# Altium schematic symbol library MCU.SchLib: 7 symbols
Pins are listed as number, name and electrical type; pins without a type are passive.

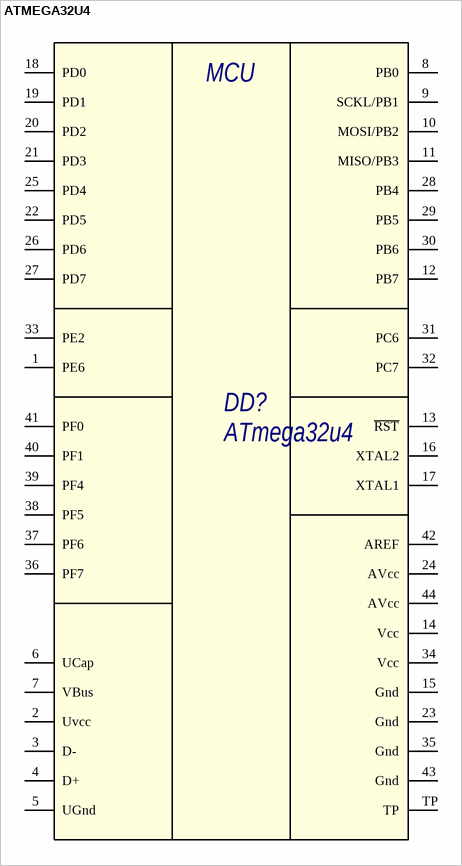
[diagram p0: symbol ATMEGA32U4]

## ATMEGA32U4
designator DD?, comment ATmega32u4
Микроконтроллер AVR 8-bit; Name: ATmega32u4; HelpURL: https://files.amperka.ru/datasheets/ATMega32u4.pdf
footprint TQFP44
footprint QFN44
footprint UNIVERSAL_ATMEGA32U4
pins: 1 PE6, 2 Uvcc, 3 D-, 4 D+, 5 UGnd, 6 UCap, 7 VBus, 8 PB0, 9 SCKL/PB1, 10 MOSI/PB2, 11 MISO/PB3, 12 PB7, 13 ~{RST}, 14 Vcc, 15 Gnd, 16 XTAL2, 17 XTAL1, 18 PD0, 19 PD1, 20 PD2, 21 PD3, 22 PD5, 23 Gnd, 24 AVcc, 25 PD4, 26 PD6, 27 PD7, 28 PB4, 29 PB5, 30 PB6, 31 PC6, 32 PC7, 33 PE2, 34 Vcc, 35 Gnd, 36 PF7, 37 PF6, 38 PF5, 39 PF4, 40 PF1, 41 PF0, 42 AREF, 43 Gnd, 44 AVcc, TP
text: MCU

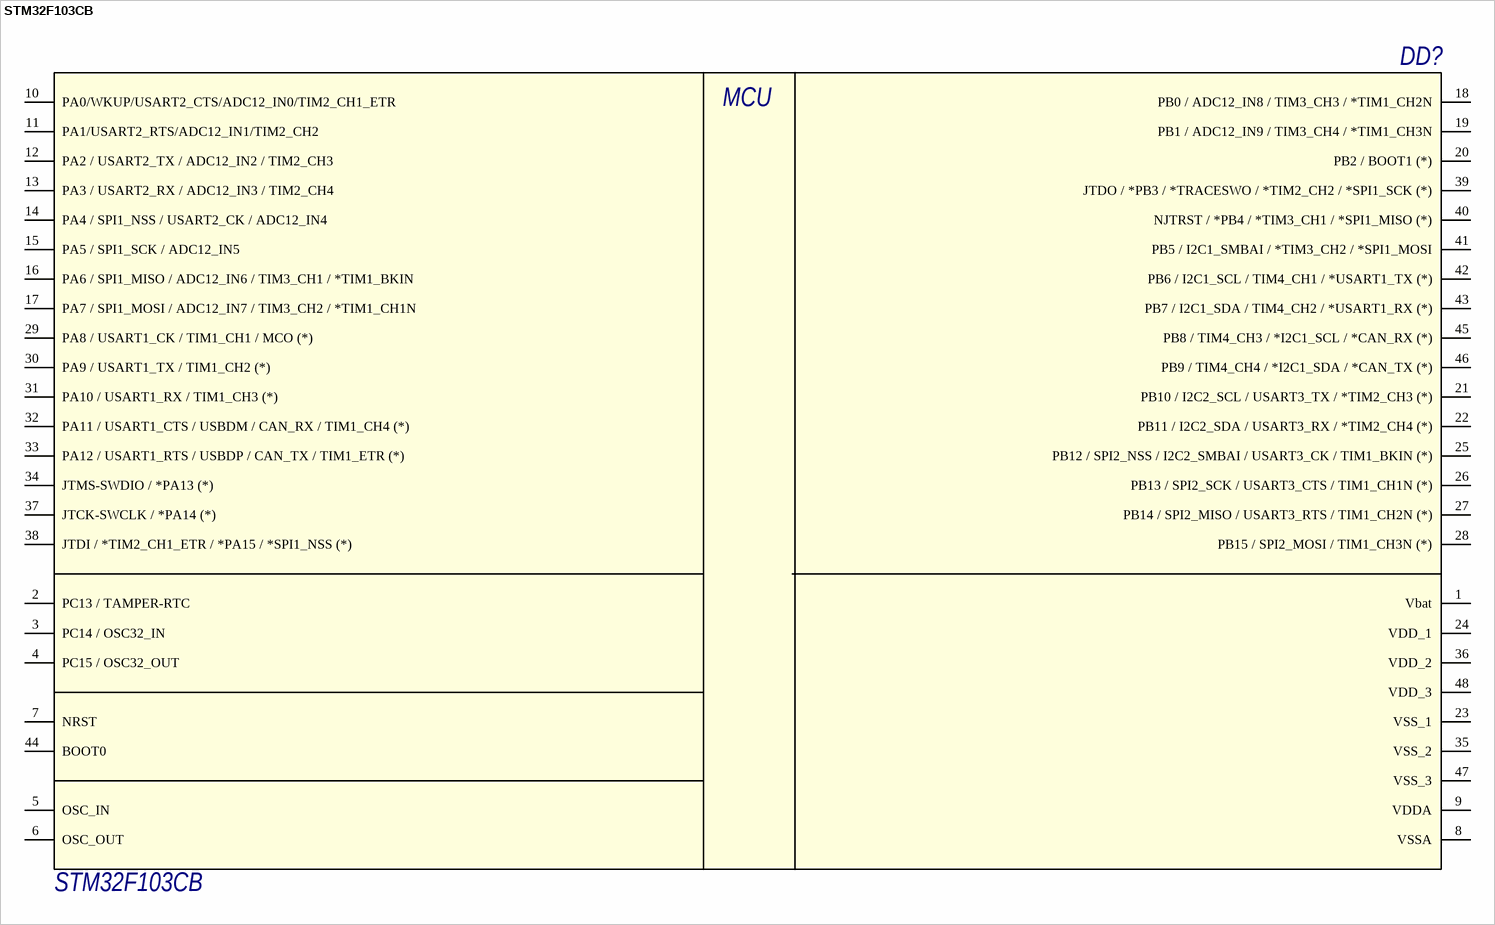
[diagram p1: symbol STM32F103CB]

## STM32F103CB
designator DD?
Микроконтроллер; Name: STM32F103CB
footprint LQFP48 (Thin QFP, 48-Leads, Body 7x7mm, Pitch 0.5mm, IPC High Density)
pins: 1 Vbat, 2 PC13 / TAMPER-RTC, 3 PC14 / OSC32_IN, 4 PC15 / OSC32_OUT, 5 OSC_IN, 6 OSC_OUT, 7 NRST, 8 VSSA, 9 VDDA, 10 PA0/WKUP/USART2_CTS/ADC12_IN0/TIM2_CH1_ETR, 11 PA1/USART2_RTS/ADC12_IN1/TIM2_CH2, 12 PA2 / USART2_TX / ADC12_IN2 / TIM2_CH3, 13 PA3 / USART2_RX / ADC12_IN3 / TIM2_CH4, 14 PA4 / SPI1_NSS / USART2_CK / ADC12_IN4, 15 PA5 / SPI1_SCK / ADC12_IN5, 16 PA6 / SPI1_MISO / ADC12_IN6 / TIM3_CH1 / *TIM1_BKIN, 17 PA7 / SPI1_MOSI / ADC12_IN7 / TIM3_CH2 / *TIM1_CH1N, 18 PB0 / ADC12_IN8 / TIM3_CH3 / *TIM1_CH2N, 19 PB1 / ADC12_IN9 / TIM3_CH4 / *TIM1_CH3N, 20 PB2 / BOOT1 (*), 21 PB10 / I2C2_SCL / USART3_TX / *TIM2_CH3 (*), 22 PB11 / I2C2_SDA / USART3_RX / *TIM2_CH4 (*), 23 VSS_1, 24 VDD_1, 25 PB12 / SPI2_NSS / I2C2_SMBAI / USART3_CK / TIM1_BKIN (*), 26 PB13 / SPI2_SCK / USART3_CTS / TIM1_CH1N (*), 27 PB14 / SPI2_MISO / USART3_RTS / TIM1_CH2N (*), 28 PB15 / SPI2_MOSI / TIM1_CH3N (*), 29 PA8 / USART1_CK / TIM1_CH1 / MCO (*), 30 PA9 / USART1_TX / TIM1_CH2 (*), 31 PA10 / USART1_RX / TIM1_CH3 (*), 32 PA11 / USART1_CTS / USBDM / CAN_RX / TIM1_CH4 (*), 33 PA12 / USART1_RTS / USBDP / CAN_TX / TIM1_ETR (*), 34 JTMS-SWDIO / *PA13 (*), 35 VSS_2, 36 VDD_2, 37 JTCK-SWCLK / *PA14 (*), 38 JTDI / *TIM2_CH1_ETR / *PA15 / *SPI1_NSS (*), 39 JTDO / *PB3 / *TRACESWO / *TIM2_CH2 / *SPI1_SCK (*), 40 NJTRST / *PB4 / *TIM3_CH1 / *SPI1_MISO (*), 41 PB5 / I2C1_SMBAI / *TIM3_CH2 / *SPI1_MOSI, 42 PB6 / I2C1_SCL / TIM4_CH1 / *USART1_TX (*), 43 PB7 / I2C1_SDA / TIM4_CH2 / *USART1_RX (*), 44 BOOT0, 45 PB8 / TIM4_CH3 / *I2C1_SCL / *CAN_RX (*), 46 PB9 / TIM4_CH4 / *I2C1_SDA / *CAN_TX (*), 47 VSS_3, 48 VDD_3
text: MCU

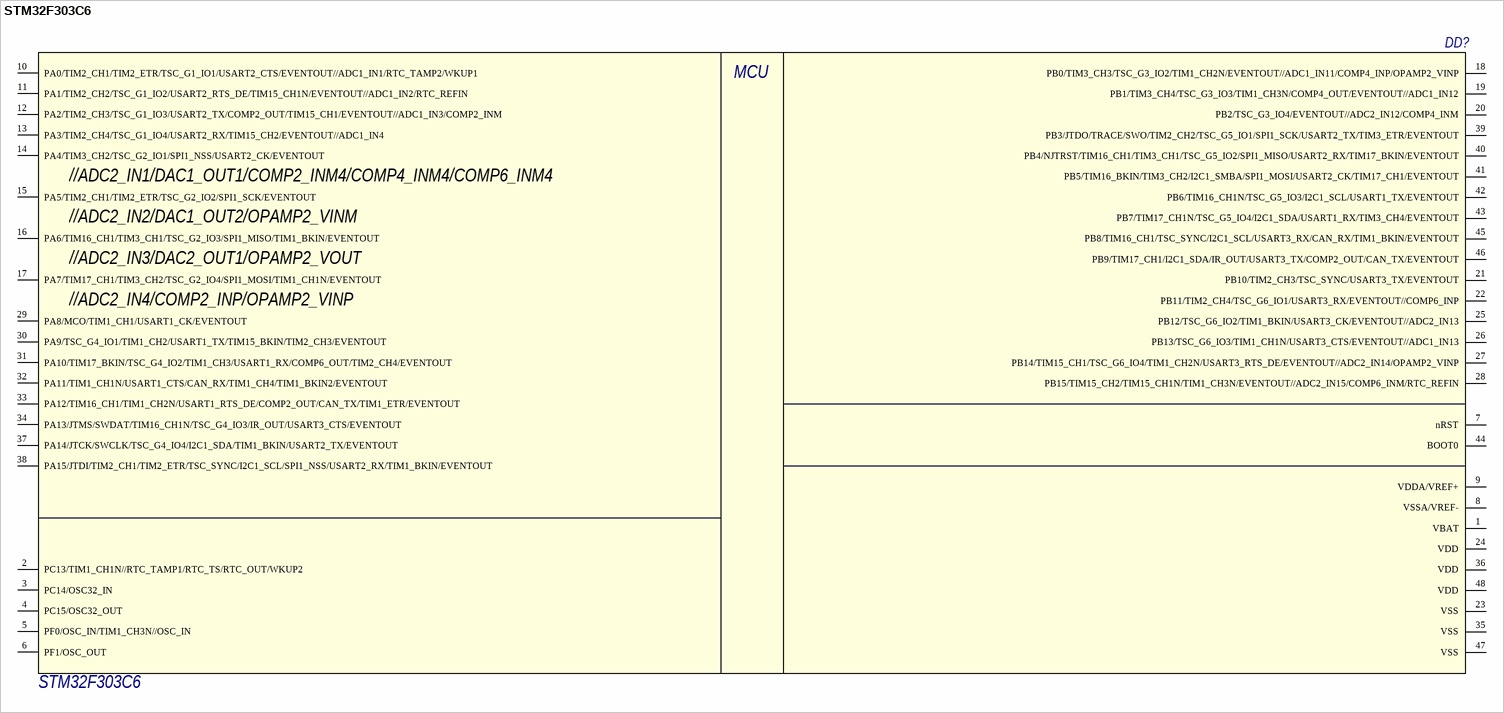
[diagram p2: symbol STM32F303C6]

## STM32F303C6
designator DD?
Микроконтроллер; Name: STM32F303C6
footprint LQFP48 (Thin QFP, 48-Leads, Body 7x7mm, Pitch 0.5mm, IPC High Density)
pins: 1 VBAT, 2 PC13/TIM1_CH1N//RTC_TAMP1/RTC_TS/RTC_OUT/WKUP2, 3 PC14/OSC32_IN, 4 PC15/OSC32_OUT, 5 PF0/OSC_IN/TIM1_CH3N//OSC_IN, 6 PF1/OSC_OUT, 7 nRST, 8 VSSA/VREF-, 9 VDDA/VREF+, 10 PA0/TIM2_CH1/TIM2_ETR/TSC_G1_IO1/USART2_CTS/EVENTOUT//ADC1_IN1/RTC_TAMP2/WKUP1, 11 PA1/TIM2_CH2/TSC_G1_IO2/USART2_RTS_DE/TIM15_CH1N/EVENTOUT//ADC1_IN2/RTC_REFIN, 12 PA2/TIM2_CH3/TSC_G1_IO3/USART2_TX/COMP2_OUT/TIM15_CH1/EVENTOUT//ADC1_IN3/COMP2_INM, 13 PA3/TIM2_CH4/TSC_G1_IO4/USART2_RX/TIM15_CH2/EVENTOUT//ADC1_IN4, 14 PA4/TIM3_CH2/TSC_G2_IO1/SPI1_NSS/USART2_CK/EVENTOUT, 15 PA5/TIM2_CH1/TIM2_ETR/TSC_G2_IO2/SPI1_SCK/EVENTOUT, 16 PA6/TIM16_CH1/TIM3_CH1/TSC_G2_IO3/SPI1_MISO/TIM1_BKIN/EVENTOUT, 17 PA7/TIM17_CH1/TIM3_CH2/TSC_G2_IO4/SPI1_MOSI/TIM1_CH1N/EVENTOUT, 18 PB0/TIM3_CH3/TSC_G3_IO2/TIM1_CH2N/EVENTOUT//ADC1_IN11/COMP4_INP/OPAMP2_VINP, 19 PB1/TIM3_CH4/TSC_G3_IO3/TIM1_CH3N/COMP4_OUT/EVENTOUT//ADC1_IN12, 20 PB2/TSC_G3_IO4/EVENTOUT//ADC2_IN12/COMP4_INM, 21 PB10/TIM2_CH3/TSC_SYNC/USART3_TX/EVENTOUT, 22 PB11/TIM2_CH4/TSC_G6_IO1/USART3_RX/EVENTOUT//COMP6_INP, 23 VSS, 24 VDD, 25 PB12/TSC_G6_IO2/TIM1_BKIN/USART3_CK/EVENTOUT//ADC2_IN13, 26 PB13/TSC_G6_IO3/TIM1_CH1N/USART3_CTS/EVENTOUT//ADC1_IN13, 27 PB14/TIM15_CH1/TSC_G6_IO4/TIM1_CH2N/USART3_RTS_DE/EVENTOUT//ADC2_IN14/OPAMP2_VINP, 28 PB15/TIM15_CH2/TIM15_CH1N/TIM1_CH3N/EVENTOUT//ADC2_IN15/COMP6_INM/RTC_REFIN, 29 PA8/MCO/TIM1_CH1/USART1_CK/EVENTOUT, 30 PA9/TSC_G4_IO1/TIM1_CH2/USART1_TX/TIM15_BKIN/TIM2_CH3/EVENTOUT, 31 PA10/TIM17_BKIN/TSC_G4_IO2/TIM1_CH3/USART1_RX/COMP6_OUT/TIM2_CH4/EVENTOUT, 32 PA11/TIM1_CH1N/USART1_CTS/CAN_RX/TIM1_CH4/TIM1_BKIN2/EVENTOUT, 33 PA12/TIM16_CH1/TIM1_CH2N/USART1_RTS_DE/COMP2_OUT/CAN_TX/TIM1_ETR/EVENTOUT, 34 PA13/JTMS/SWDAT/TIM16_CH1N/TSC_G4_IO3/IR_OUT/USART3_CTS/EVENTOUT, 35 VSS, 36 VDD, 37 PA14/JTCK/SWCLK/TSC_G4_IO4/I2C1_SDA/TIM1_BKIN/USART2_TX/EVENTOUT, 38 PA15/JTDI/TIM2_CH1/TIM2_ETR/TSC_SYNC/I2C1_SCL/SPI1_NSS/USART2_RX/TIM1_BKIN/EVENTOUT, 39 PB3/JTDO/TRACE/SWO/TIM2_CH2/TSC_G5_IO1/SPI1_SCK/USART2_TX/TIM3_ETR/EVENTOUT, 40 PB4/NJTRST/TIM16_CH1/TIM3_CH1/TSC_G5_IO2/SPI1_MISO/USART2_RX/TIM17_BKIN/EVENTOUT, 41 PB5/TIM16_BKIN/TIM3_CH2/I2C1_SMBA/SPI1_MOSI/USART2_CK/TIM17_CH1/EVENTOUT, 42 PB6/TIM16_CH1N/TSC_G5_IO3/I2C1_SCL/USART1_TX/EVENTOUT, 43 PB7/TIM17_CH1N/TSC_G5_IO4/I2C1_SDA/USART1_RX/TIM3_CH4/EVENTOUT, 44 BOOT0, 45 PB8/TIM16_CH1/TSC_SYNC/I2C1_SCL/USART3_RX/CAN_RX/TIM1_BKIN/EVENTOUT, 46 PB9/TIM17_CH1/I2C1_SDA/IR_OUT/USART3_TX/COMP2_OUT/CAN_TX/EVENTOUT, 47 VSS, 48 VDD
text: MCU; //ADC2_IN1/DAC1_OUT1/COMP2_INM4/COMP4_INM4/COMP6_INM4; //ADC2_IN2/DAC1_OUT2/OPAMP2_VINM; //ADC2_IN3/DAC2_OUT1/OPAMP2_VOUT; //ADC2_IN4/COMP2_INP/OPAMP2_VINP

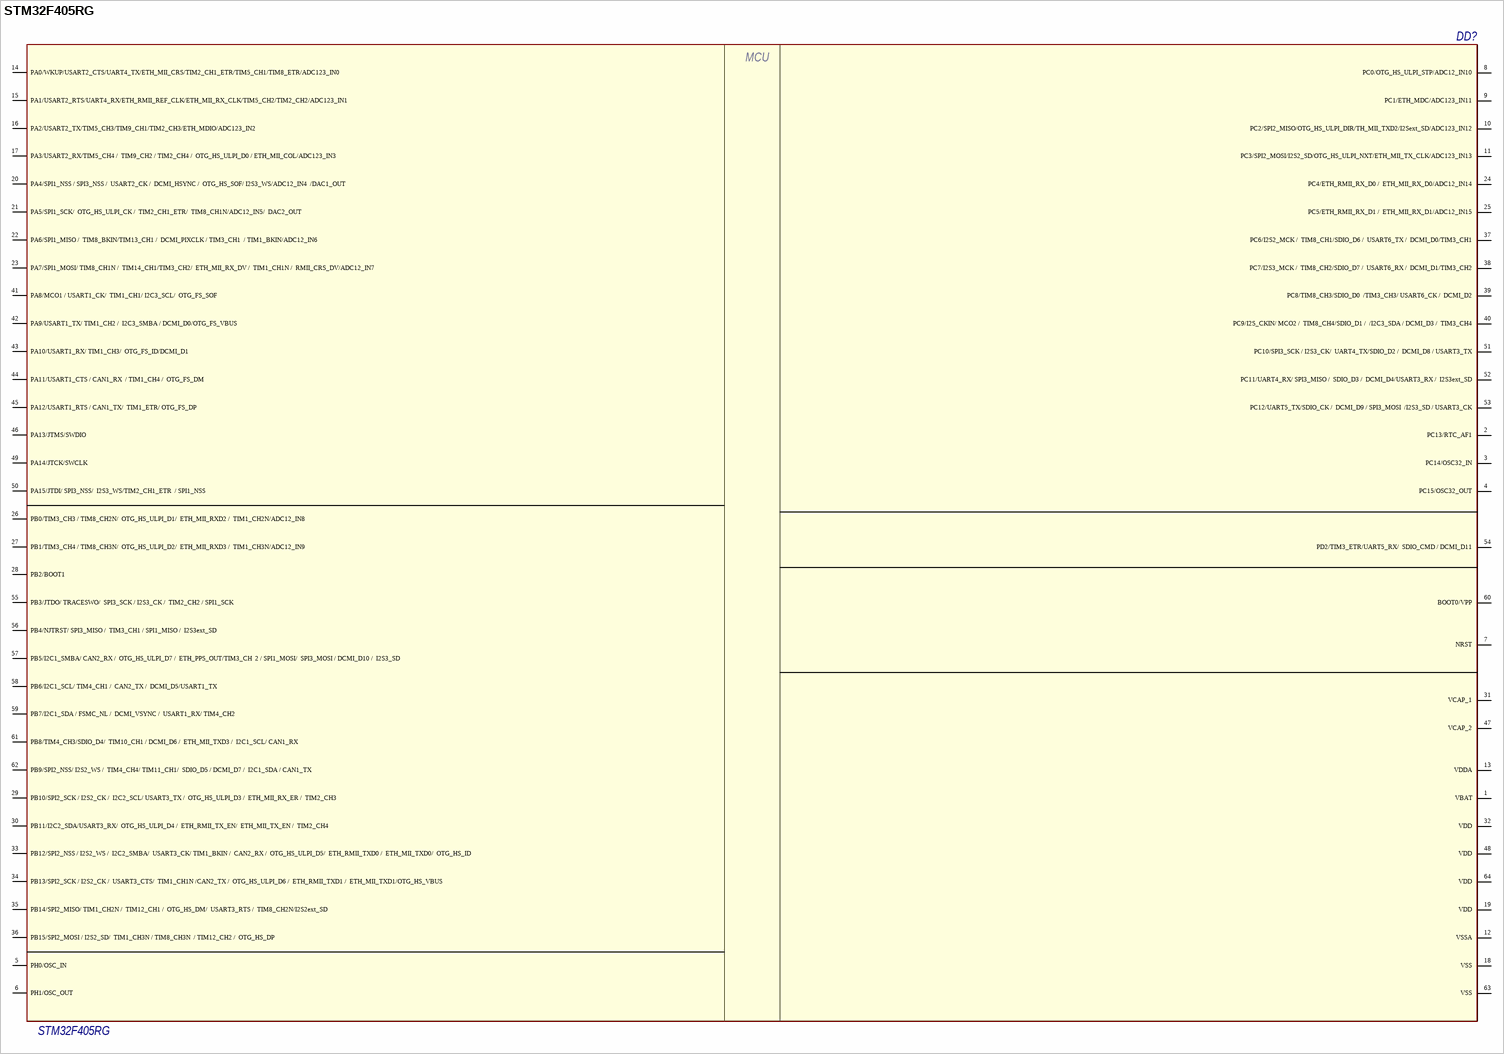
[diagram p3: symbol STM32F405RG]

## STM32F405RG
designator DD?
Микроконтроллер Cortex-M4; Name: STM32F405RG
footprint LQFP64_L (TSQFP, 64-Leads, Body 10,00x10,00mm, Pitch 0,50mm, IPC Medium Density)
footprint LQFP64_H (64-Pin Low Profile Quad Pack 0.5 mm Pitch, IPC High Density)
pins: 1 VBAT, 2 PC13/RTC_AF1, 3 PC14/OSC32_IN, 4 PC15/OSC32_OUT, 5 PH0/OSC_IN, 6 PH1/OSC_OUT, 7 NRST, 8 PC0/OTG_HS_ULPI_STP/ADC12_IN10, 9 PC1/ETH_MDC/ADC123_IN11, 10 PC2/SPI2_MISO/OTG_HS_ULPI_DIR/TH_MII_TXD2/I2Sext_SD/ADC123_IN12, 11 PC3/SPI2_MOSI/I2S2_SD/OTG_HS_ULPI_NXT/ETH_MII_TX_CLK/ADC123_IN13, 12 VSSA, 13 VDDA, 14 PA0/WKUP/USART2_CTS/UART4_TX/ETH_MII_CRS/TIM2_CH1_ETR/TIM5_CH1/TIM8_ETR/ADC123_IN0, 15 PA1/USART2_RTS/UART4_RX/ETH_RMII_REF_CLK/ETH_MII_RX_CLK/TIM5_CH2/TIM2_CH2/ADC123_IN1, 16 PA2/USART2_TX/TIM5_CH3/TIM9_CH1/TIM2_CH3/ETH_MDIO/ADC123_IN2, 17 PA3/USART2_RX/TIM5_CH4 /  TIM9_CH2 / TIM2_CH4 /  OTG_HS_ULPI_D0 / ETH_MII_COL/ADC123_IN3, 18 VSS, 19 VDD, 20 PA4/SPI1_NSS / SPI3_NSS /  USART2_CK /  DCMI_HSYNC /  OTG_HS_SOF/ I2S3_WS/ADC12_IN4  /DAC1_OUT, 21 PA5/SPI1_SCK/  OTG_HS_ULPI_CK /  TIM2_CH1_ETR/  TIM8_CH1N/ADC12_IN5/  DAC2_OUT, 22 PA6/SPI1_MISO /  TIM8_BKIN/TIM13_CH1 /  DCMI_PIXCLK / TIM3_CH1  / TIM1_BKIN/ADC12_IN6, 23 PA7/SPI1_MOSI/ TIM8_CH1N /  TIM14_CH1/TIM3_CH2/  ETH_MII_RX_DV /  TIM1_CH1N /  RMII_CRS_DV/ADC12_IN7, 24 PC4/ETH_RMII_RX_D0 /  ETH_MII_RX_D0/ADC12_IN14, 25 PC5/ETH_RMII_RX_D1 /  ETH_MII_RX_D1/ADC12_IN15, 26 PB0/TIM3_CH3 / TIM8_CH2N/  OTG_HS_ULPI_D1/  ETH_MII_RXD2 /  TIM1_CH2N/ADC12_IN8, 27 PB1/TIM3_CH4 / TIM8_CH3N/  OTG_HS_ULPI_D2/  ETH_MII_RXD3 /  TIM1_CH3N/ADC12_IN9, 28 PB2/BOOT1, 29 PB10/SPI2_SCK / I2S2_CK /  I2C2_SCL/ USART3_TX /  OTG_HS_ULPI_D3 /  ETH_MII_RX_ER /  TIM2_CH3, 30 PB11/I2C2_SDA/USART3_RX/  OTG_HS_ULPI_D4 /  ETH_RMII_TX_EN/  ETH_MII_TX_EN /  TIM2_CH4, 31 VCAP_1, 32 VDD, 33 PB12/SPI2_NSS / I2S2_WS /  I2C2_SMBA/  USART3_CK/ TIM1_BKIN /  CAN2_RX /  OTG_HS_ULPI_D5/  ETH_RMII_TXD0 /  ETH_MII_TXD0/  OTG_HS_ID, 34 PB13/SPI2_SCK / I2S2_CK /  USART3_CTS/  TIM1_CH1N /CAN2_TX /  OTG_HS_ULPI_D6 /  ETH_RMII_TXD1 /  ETH_MII_TXD1/OTG_HS_VBUS, 35 PB14/SPI2_MISO/ TIM1_CH2N /  TIM12_CH1 /  OTG_HS_DM/  USART3_RTS /  TIM8_CH2N/I2S2ext_SD, 36 PB15/SPI2_MOSI / I2S2_SD/  TIM1_CH3N / TIM8_CH3N  / TIM12_CH2 /  OTG_HS_DP, 37 PC6/I2S2_MCK /  TIM8_CH1/SDIO_D6 /  USART6_TX /  DCMI_D0/TIM3_CH1, 38 PC7/I2S3_MCK /  TIM8_CH2/SDIO_D7 /  USART6_RX /  DCMI_D1/TIM3_CH2, 39 PC8/TIM8_CH3/SDIO_D0  /TIM3_CH3/ USART6_CK /  DCMI_D2, 40 PC9/I2S_CKIN/ MCO2 /  TIM8_CH4/SDIO_D1 /  /I2C3_SDA / DCMI_D3 /  TIM3_CH4, 41 PA8/MCO1 / USART1_CK/  TIM1_CH1/ I2C3_SCL/  OTG_FS_SOF, 42 PA9/USART1_TX/ TIM1_CH2 /  I2C3_SMBA / DCMI_D0/OTG_FS_VBUS, 43 PA10/USART1_RX/ TIM1_CH3/  OTG_FS_ID/DCMI_D1, 44 PA11/USART1_CTS / CAN1_RX  / TIM1_CH4 /  OTG_FS_DM, 45 PA12/USART1_RTS / CAN1_TX/  TIM1_ETR/ OTG_FS_DP, 46 PA13/JTMS/SWDIO, 47 VCAP_2, 48 VDD, 49 PA14/JTCK/SWCLK, 50 PA15/JTDI/ SPI3_NSS/  I2S3_WS/TIM2_CH1_ETR  / SPI1_NSS, 51 PC10/SPI3_SCK / I2S3_CK/  UART4_TX/SDIO_D2 /  DCMI_D8 / USART3_TX, 52 PC11/UART4_RX/ SPI3_MISO /  SDIO_D3 /  DCMI_D4/USART3_RX /  I2S3ext_SD, 53 PC12/UART5_TX/SDIO_CK /  DCMI_D9 / SPI3_MOSI  /I2S3_SD / USART3_CK, 54 PD2/TIM3_ETR/UART5_RX/  SDIO_CMD / DCMI_D11, 55 PB3/JTDO/ TRACESWO/  SPI3_SCK / I2S3_CK /  TIM2_CH2 / SPI1_SCK, 56 PB4/NJTRST/ SPI3_MISO /  TIM3_CH1 / SPI1_MISO /  I2S3ext_SD, 57 PB5/I2C1_SMBA/ CAN2_RX /  OTG_HS_ULPI_D7 /  ETH_PPS_OUT/TIM3_CH  2 / SPI1_MOSI/  SPI3_MOSI / DCMI_D10 /  I2S3_SD, 58 PB6/I2C1_SCL/ TIM4_CH1 /  CAN2_TX /  DCMI_D5/USART1_TX, 59 PB7/I2C1_SDA / FSMC_NL /  DCMI_VSYNC /  USART1_RX/ TIM4_CH2, 60 BOOT0/VPP, 61 PB8/TIM4_CH3/SDIO_D4/  TIM10_CH1 / DCMI_D6 /  ETH_MII_TXD3 /  I2C1_SCL/ CAN1_RX, 62 PB9/SPI2_NSS/ I2S2_WS /  TIM4_CH4/ TIM11_CH1/  SDIO_D5 / DCMI_D7 /  I2C1_SDA / CAN1_TX, 63 VSS, 64 VDD
text: MCU

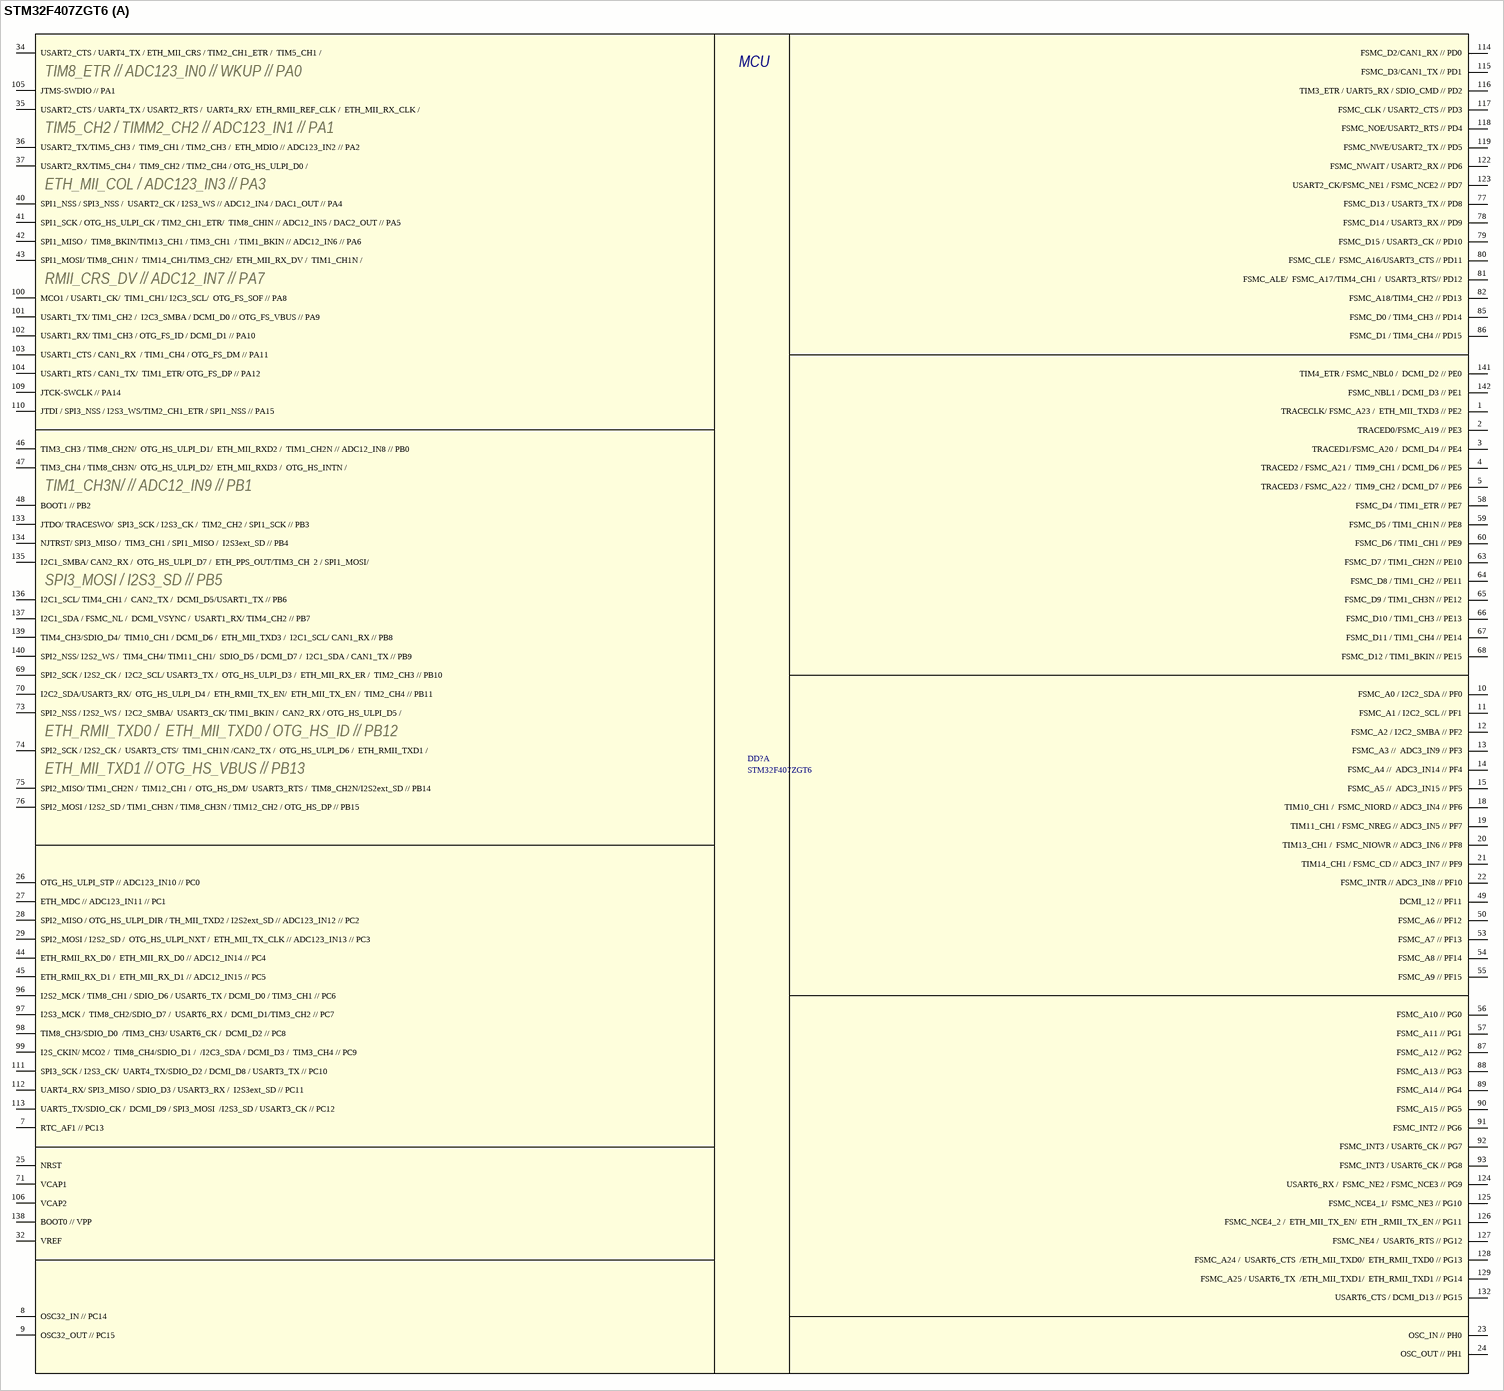
[diagram p4: symbol STM32F407ZGT6]

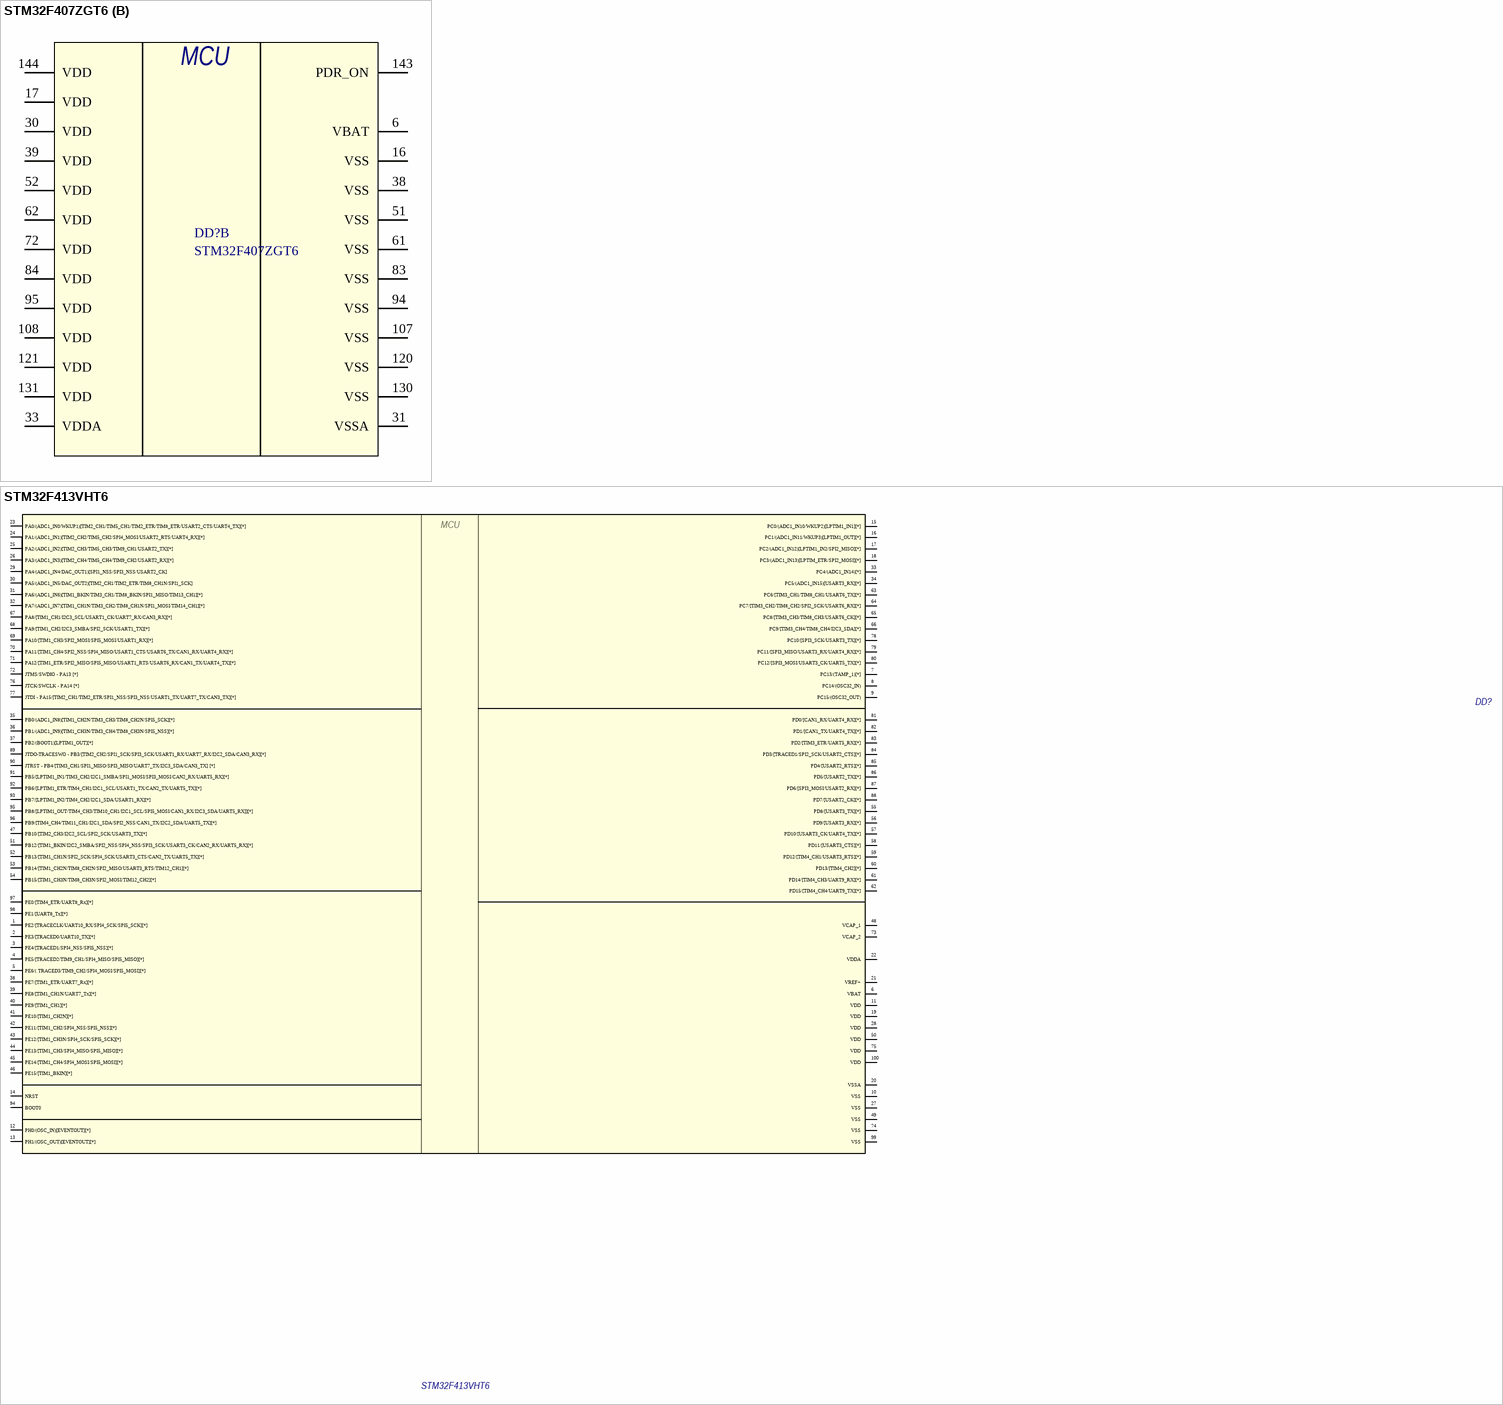
[diagram p5: symbols STM32F407ZGT6 to STM32F413VHT6]

## STM32F407ZGT6
designator DD?
Микроконтроллер 32-хразрядный; Manufacturer: STMicroelectronics; Name: STM32F407ZGT6; Package: LQFP144
footprint LQFP-144
part A pins: 1 TRACECLK/ FSMC_A23 /  ETH_MII_TXD3 // PE2, 2 TRACED0/FSMC_A19 // PE3, 3 TRACED1/FSMC_A20 /  DCMI_D4 // PE4, 4 TRACED2 / FSMC_A21 /  TIM9_CH1 / DCMI_D6 // PE5, 5 TRACED3 / FSMC_A22 /  TIM9_CH2 / DCMI_D7 // PE6, 7 RTC_AF1 // PC13, 8 OSC32_IN // PC14, 9 OSC32_OUT // PC15, 10 FSMC_A0 / I2C2_SDA // PF0, 11 FSMC_A1 / I2C2_SCL // PF1, 12 FSMC_A2 / I2C2_SMBA // PF2, 13 FSMC_A3 //  ADC3_IN9 // PF3, 14 FSMC_A4 //  ADC3_IN14 // PF4, 15 FSMC_A5 //  ADC3_IN15 // PF5, 18 TIM10_CH1 /  FSMC_NIORD // ADC3_IN4 // PF6, 19 TIM11_CH1 / FSMC_NREG // ADC3_IN5 // PF7, 20 TIM13_CH1 /  FSMC_NIOWR // ADC3_IN6 // PF8, 21 TIM14_CH1 / FSMC_CD // ADC3_IN7 // PF9, 22 FSMC_INTR // ADC3_IN8 // PF10, 23 OSC_IN // PH0, 24 OSC_OUT // PH1, 25 NRST, 26 OTG_HS_ULPI_STP // ADC123_IN10 // PC0, 27 ETH_MDC // ADC123_IN11 // PC1, 28 SPI2_MISO / OTG_HS_ULPI_DIR / TH_MII_TXD2 / I2S2ext_SD // ADC123_IN12 // PC2, 29 SPI2_MOSI / I2S2_SD /  OTG_HS_ULPI_NXT /  ETH_MII_TX_CLK // ADC123_IN13 // PC3, 32 VREF, 34 USART2_CTS / UART4_TX / ETH_MII_CRS / TIM2_CH1_ETR /  TIM5_CH1 /, 35 USART2_CTS / UART4_TX / USART2_RTS /  UART4_RX/  ETH_RMII_REF_CLK /  ETH_MII_RX_CLK / , 36 USART2_TX/TIM5_CH3 /  TIM9_CH1 / TIM2_CH3 /  ETH_MDIO // ADC123_IN2 // PA2, 37 USART2_RX/TIM5_CH4 /  TIM9_CH2 / TIM2_CH4 / OTG_HS_ULPI_D0 /, 40 SPI1_NSS / SPI3_NSS /  USART2_CK / I2S3_WS // ADC12_IN4 / DAC1_OUT // PA4, 41 SPI1_SCK / OTG_HS_ULPI_CK / TIM2_CH1_ETR/  TIM8_CHIN // ADC12_IN5 / DAC2_OUT // PA5, 42 SPI1_MISO /  TIM8_BKIN/TIM13_CH1 / TIM3_CH1  / TIM1_BKIN // ADC12_IN6 // PA6, 43 SPI1_MOSI/ TIM8_CH1N /  TIM14_CH1/TIM3_CH2/  ETH_MII_RX_DV /  TIM1_CH1N /, 44 ETH_RMII_RX_D0 /  ETH_MII_RX_D0 // ADC12_IN14 // PC4, 45 ETH_RMII_RX_D1 /  ETH_MII_RX_D1 // ADC12_IN15 // PC5, 46 TIM3_CH3 / TIM8_CH2N/  OTG_HS_ULPI_D1/  ETH_MII_RXD2 /  TIM1_CH2N // ADC12_IN8 // PB0, 47 TIM3_CH4 / TIM8_CH3N/  OTG_HS_ULPI_D2/  ETH_MII_RXD3 /  OTG_HS_INTN / , 48 BOOT1 // PB2, 49 DCMI_12 // PF11, 50 FSMC_A6 // PF12, 53  FSMC_A7 // PF13, 54  FSMC_A8 // PF14, 55  FSMC_A9 // PF15, 56 FSMC_A10 // PG0, 57 FSMC_A11 // PG1, 58  FSMC_D4 / TIM1_ETR // PE7, 59  FSMC_D5 / TIM1_CH1N // PE8, 60  FSMC_D6 / TIM1_CH1 // PE9, 63 FSMC_D7 / TIM1_CH2N // PE10, 64 FSMC_D8 / TIM1_CH2 // PE11, 65 FSMC_D9 / TIM1_CH3N // PE12, 66 FSMC_D10 / TIM1_CH3 // PE13, 67 FSMC_D11 / TIM1_CH4 // PE14, 68 FSMC_D12 / TIM1_BKIN // PE15, 69 SPI2_SCK / I2S2_CK /  I2C2_SCL/ USART3_TX /  OTG_HS_ULPI_D3 /  ETH_MII_RX_ER /  TIM2_CH3 // PB10, 70 I2C2_SDA/USART3_RX/  OTG_HS_ULPI_D4 /  ETH_RMII_TX_EN/  ETH_MII_TX_EN /  TIM2_CH4 // PB11, 71 VCAP1, 73 SPI2_NSS / I2S2_WS /  I2C2_SMBA/  USART3_CK/ TIM1_BKIN /  CAN2_RX / OTG_HS_ULPI_D5 / , 74 SPI2_SCK / I2S2_CK /  USART3_CTS/  TIM1_CH1N /CAN2_TX /  OTG_HS_ULPI_D6 /  ETH_RMII_TXD1 /, 75 SPI2_MISO/ TIM1_CH2N /  TIM12_CH1 /  OTG_HS_DM/  USART3_RTS /  TIM8_CH2N/I2S2ext_SD // PB14, 76 SPI2_MOSI / I2S2_SD / TIM1_CH3N / TIM8_CH3N / TIM12_CH2 / OTG_HS_DP // PB15, 77 FSMC_D13 / USART3_TX // PD8, 78 FSMC_D14 / USART3_RX // PD9, 79 FSMC_D15 / USART3_CK // PD10, 80 FSMC_CLE /  FSMC_A16/USART3_CTS // PD11, 81 FSMC_ALE/  FSMC_A17/TIM4_CH1 /  USART3_RTS// PD12, 82 FSMC_A18/TIM4_CH2 // PD13, 85 FSMC_D0 / TIM4_CH3 // PD14, 86 FSMC_D1 / TIM4_CH4 // PD15, 87 FSMC_A12 // PG2, 88 FSMC_A13 // PG3, 89 FSMC_A14 // PG4, 90 FSMC_A15 // PG5, 91 FSMC_INT2 // PG6, 92 FSMC_INT3 / USART6_CK // PG7, 93 FSMC_INT3 / USART6_CK // PG8, 96 I2S2_MCK / TIM8_CH1 / SDIO_D6 / USART6_TX / DCMI_D0 / TIM3_CH1 // PC6, 97 I2S3_MCK /  TIM8_CH2/SDIO_D7 /  USART6_RX /  DCMI_D1/TIM3_CH2 // PC7, 98 TIM8_CH3/SDIO_D0  /TIM3_CH3/ USART6_CK /  DCMI_D2 // PC8, 99 I2S_CKIN/ MCO2 /  TIM8_CH4/SDIO_D1 /  /I2C3_SDA / DCMI_D3 /  TIM3_CH4 // PC9, 100 MCO1 / USART1_CK/  TIM1_CH1/ I2C3_SCL/  OTG_FS_SOF // PA8, 101 USART1_TX/ TIM1_CH2 /  I2C3_SMBA / DCMI_D0 // OTG_FS_VBUS // PA9, 102 USART1_RX/ TIM1_CH3 / OTG_FS_ID / DCMI_D1 // PA10, 103 USART1_CTS / CAN1_RX  / TIM1_CH4 / OTG_FS_DM // PA11, 104 USART1_RTS / CAN1_TX/  TIM1_ETR/ OTG_FS_DP // PA12, 105 JTMS-SWDIO // PA1, 106 VCAP2, 109 JTCK-SWCLK // PA14, 110 JTDI / SPI3_NSS / I2S3_WS/TIM2_CH1_ETR / SPI1_NSS // PA15, 111 SPI3_SCK / I2S3_CK/  UART4_TX/SDIO_D2 / DCMI_D8 / USART3_TX // PC10, 112 UART4_RX/ SPI3_MISO / SDIO_D3 / USART3_RX /  I2S3ext_SD // PC11, 113 UART5_TX/SDIO_CK /  DCMI_D9 / SPI3_MOSI  /I2S3_SD / USART3_CK // PC12, 114 FSMC_D2/CAN1_RX // PD0, 115 FSMC_D3/CAN1_TX // PD1, 116 TIM3_ETR / UART5_RX / SDIO_CMD // PD2, 117 FSMC_CLK / USART2_CTS // PD3, 118 FSMC_NOE/USART2_RTS // PD4, 119 FSMC_NWE/USART2_TX // PD5, 122 FSMC_NWAIT / USART2_RX // PD6, 123 USART2_CK/FSMC_NE1 / FSMC_NCE2 // PD7, 124 USART6_RX /  FSMC_NE2 / FSMC_NCE3 // PG9, 125 FSMC_NCE4_1/  FSMC_NE3 // PG10, 126 FSMC_NCE4_2 /  ETH_MII_TX_EN/  ETH _RMII_TX_EN // PG11, 127 FSMC_NE4 /  USART6_RTS // PG12, 128 FSMC_A24 /  USART6_CTS  /ETH_MII_TXD0/  ETH_RMII_TXD0 // PG13, 129 FSMC_A25 / USART6_TX  /ETH_MII_TXD1/  ETH_RMII_TXD1 // PG14, 132 USART6_CTS / DCMI_D13 // PG15, 133 JTDO/ TRACESWO/  SPI3_SCK / I2S3_CK /  TIM2_CH2 / SPI1_SCK // PB3, 134 NJTRST/ SPI3_MISO /  TIM3_CH1 / SPI1_MISO /  I2S3ext_SD // PB4, 135 I2C1_SMBA/ CAN2_RX /  OTG_HS_ULPI_D7 /  ETH_PPS_OUT/TIM3_CH  2 / SPI1_MOSI/ , 136 I2C1_SCL/ TIM4_CH1 /  CAN2_TX /  DCMI_D5/USART1_TX // PB6, 137 I2C1_SDA / FSMC_NL /  DCMI_VSYNC /  USART1_RX/ TIM4_CH2 // PB7, 138 BOOT0 // VPP, 139 TIM4_CH3/SDIO_D4/  TIM10_CH1 / DCMI_D6 /  ETH_MII_TXD3 /  I2C1_SCL/ CAN1_RX // PB8, 140 SPI2_NSS/ I2S2_WS /  TIM4_CH4/ TIM11_CH1/  SDIO_D5 / DCMI_D7 /  I2C1_SDA / CAN1_TX // PB9, 141 TIM4_ETR / FSMC_NBL0 /  DCMI_D2 // PE0, 142 FSMC_NBL1 / DCMI_D3 // PE1
part B pins: 6 VBAT, 16 VSS, 17 VDD, 30 VDD, 31 VSSA, 33 VDDA, 38 VSS, 39 VDD, 51 VSS, 52 VDD, 61 VSS, 62 VDD, 72 VDD, 83 VSS, 84 VDD, 94 VSS, 95 VDD, 107 VSS, 108 VDD, 120 VSS, 121 VDD, 130 VSS, 131 VDD, 143 PDR_ON, 144 VDD
2 alternate drawings of the same symbol
part A text: MCU; TIM8_ETR // ADC123_IN0 // WKUP // PA0; TIM5_CH2 / TIMM2_CH2 // ADC123_IN1 // PA1; ETH_MII_COL / ADC123_IN3 // PA3; RMII_CRS_DV // ADC12_IN7 // PA7; TIM1_CH3N/ // ADC12_IN9 // PB1; SPI3_MOSI / I2S3_SD // PB5; ETH_RMII_TXD0 /  ETH_MII_TXD0 / OTG_HS_ID // PB12; ETH_MII_TXD1 // OTG_HS_VBUS // PB13
part B text: MCU

## STM32F413VHT6
designator DD?
Микроконтроллер; Name: STM32F413VHT6
footprint LQFP100_A
pins: 1 PE2/[TRACECLK/UART10_RX/SPI4_SCK/SPI5_SCK][*], 2 PE3/[TRACED0/UART10_TX][*], 3 PE4/[TRACED1/SPI4_NSS/SPI5_NSS][*], 4 PE5/[TRACED2/TIM9_CH1/SPI4_MISO/SPI5_MISO][*], 5 PE6/( TRACED3/TIM9_CH2/SPI4_MOSI/SPI5_MOSI][*], 6 VBAT, 7 PC13/(TAMP_1)[*], 8 PC14/(OSC32_IN), 9 PC15/(OSC32_OUT), 10 VSS, 11 VDD, 12 PH0/(OSC_IN)[EVENTOUT][*], 13 PH1/(OSC_OUT)[EVENTOUT][*], 14 NRST, 15 PC0/(ADC1_IN10/WKUP2)[LPTIM1_IN1][*], 16 PC1/(ADC1_IN11/WKUP3)[LPTIM1_OUT][*], 17 PC2/(ADC1_IN12)[LPTIM1_IN2/SPI2_MISO][*], 18 PC3/(ADC1_IN13)[LPTIM_ETR/SPI2_MOSI][*], 19 VDD, 20 VSSA, 21 VREF+, 22 VDDA, 23 PA0/(ADC1_IN0/WKUP1)[TIM2_CH1/TIM5_CH1/TIM2_ETR/TIM8_ETR/USART2_CTS/UART4_TX][*], 24 PA1/(ADC1_IN1)[TIM2_CH2/TIM5_CH2/SPI4_MOSI/USART2_RTS/UART4_RX][*], 25 PA2/(ADC1_IN2)[TIM2_CH3/TIM5_CH3/TIM9_CH1/USART2_TX][*], 26 PA3/(ADC1_IN3)[TIM2_CH4/TIM5_CH4/TIM9_CH2/USART2_RX][*], 27 VSS, 28 VDD, 29 PA4/(ADC1_IN4/DAC_OUT1)[SPI1_NSS/SPI3_NSS/USART2_CK], 30 PA5/(ADC1_IN5/DAC_OUT2)[TIM2_CH1/TIM2_ETR/TIM8_CH1N/SPI1_SCK], 31 PA6/(ADC1_IN6)[TIM1_BKIN/TIM3_CH1/TIM8_BKIN/SPI1_MISO/TIM13_CH1][*], 32 PA7/(ADC1_IN7)[TIM1_CH1N/TIM3_CH2/TIM8_CH1N/SPI1_MOSI/TIM14_CH1][*], 33 PC4/(ADC1_IN14)[*], 34 PC5/(ADC1_IN15)[USART3_RX][*], 35 PB0/(ADC1_IN8)[TIM1_CH2N/TIM3_CH3/TIM8_CH2N/SPI5_SCK][*], 36 PB1/(ADC1_IN9)[TIM1_CH3N/TIM3_CH4/TIM8_CH3N/SPI5_NSS][*], 37 PB2/(BOOT1)[LPTIM1_OUT][*], 38 PE7/[TIM1_ETR/UART7_Rx][*], 39 PE8/[TIM1_CH1N/UART7_Tx][*], 40 PE9/[TIM1_CH1][*], 41 PE10/[TIM1_CH2N][*], 42 PE11/[TIM1_CH2/SPI4_NSS/SPI5_NSS][*], 43 PE12/[TIM1_CH3N/SPI4_SCK/SPI5_SCK][*], 44 PE13/[TIM1_CH3/SPI4_MISO/SPI5_MISO][*], 45 PE14/[TIM1_CH4/SPI4_MOSI/SPI5_MOSI][*], 46 PE15/[TIM1_BKIN][*], 47 PB10/[TIM2_CH3/I2C2_SCL/SPI2_SCK/USART3_TX][*], 48 VCAP_1, 49 VSS, 50 VDD, 51 PB12/[TIM1_BKIN/I2C2_SMBA/SPI2_NSS/SPI4_NSS/SPI3_SCK/USART3_CK/CAN2_RX/UART5_RX][*], 52 PB13/[TIM1_CH1N/SPI2_SCK/SPI4_SCK/USART3_CTS/CAN2_TX/UART5_TX][*], 53 PB14/[TIM1_CH2N/TIM8_CH2N/SPI2_MISO/USART3_RTS/TIM12_CH1][*], 54 PB15/[TIM1_CH3N/TIM8_CH3N/SPI2_MOSI/TIM12_CH2][*], 55 PD8/[USART3_TX][*], 56 PD9/[USART3_RX][*], 57 PD10/[USART3_CK/UART4_TX][*], 58 PD11/[USART3_CTS][*], 59 PD12/[TIM4_CH1/USART3_RTS][*], 60 PD13/[TIM4_CH2][*], 61 PD14/[TIM4_CH3/UART9_RX][*], 62 PD15/[TIM4_CH4/UART9_TX][*], 63 PC6/[TIM3_CH1/TIM8_CH1/USART6_TX][*], 64 PC7/[TIM3_CH2/TIM8_CH2/SPI2_SCK/USART6_RX][*], 65 PC8/[TIM3_CH3/TIM8_CH3/USART6_CK][*], 66 PC9/[TIM3_CH4/TIM8_CH4/I2C3_SDA][*], 67 PA8/[TIM1_CH1/I2C3_SCL/USART1_CK/UART7_RX/CAN3_RX][*], 68 PA9/[TIM1_CH2/I2C3_SMBA/SPI2_SCK/USART1_TX][*], 69 PA10/[TIM1_CH3/SPI2_MOSI/SPI5_MOSI/USART1_RX][*], 70 PA11/[TIM1_CH4/SPI2_NSS/SPI4_MISO/USART1_CTS/USART6_TX/CAN1_RX/UART4_RX][*], 71 PA12/[TIM1_ETR/SPI2_MISO/SPI5_MISO/USART1_RTS/USART6_RX/CAN1_TX/UART4_TX][*], 72 JTMS/SWDIO - PA13 [*], 73 VCAP_2, 74 VSS, 75 VDD, 76 JTCK/SWCLK - PA14 [*], 77 JTDI - PA15/[TIM2_CH1/TIM2_ETR/SPI1_NSS/SPI3_NSS/USART1_TX/UART7_TX/CAN3_TX][*], 78 PC10/[SPI3_SCK/USART3_TX][*], 79 PC11/[SPI3_MISO/USART3_RX/UART4_RX][*], 80 PC12/[SPI3_MOSI/USART3_CK/UART5_TX][*], 81 PD0/[CAN1_RX/UART4_RX][*], 82 PD1/[CAN1_TX/UART4_TX][*], 83 PD2/[TIM3_ETR/UART5_RX][*], 84 PD3/[TRACED1/SPI2_SCK/USART2_CTS][*], 85 PD4/[USART2_RTS][*], 86 PD5/[USART2_TX][*], 87 PD6/[SPI3_MOSI/USART2_RX][*], 88 PD7/[USART2_CK][*], 89 JTDO-TRACESWO - PB3/[TIM2_CH2/SPI1_SCK/SPI3_SCK/USART1_RX/UART7_RX/I2C2_SDA/CAN3_RX][*], 90 JTRST - PB4/[TIM3_CH1/SPI1_MISO/SPI3_MISO/UART7_TX/I2C3_SDA/CAN3_TX] [*], 91 PB5/[LPTIM1_IN1/TIM3_CH2/I2C1_SMBA/SPI1_MOSI/SPI3_MOSI/CAN2_RX/UART5_RX][*], 92 PB6/[LPTIM1_ETR/TIM4_CH1/I2C1_SCL/USART1_TX/CAN2_TX/UART5_TX][*], 93 PB7/[LPTIM1_IN2/TIM4_CH2/I2C1_SDA/USART1_RX][*], 94 BOOT0, 95 PB8/[LPTIM1_OUT/TIM4_CH3/TIM10_CH1/I2C1_SCL/SPI5_MOSI/CAN1_RX/I2C3_SDA/UART5_RX]][*], 96 PB9/[TIM4_CH4/TIM11_CH1/I2C1_SDA/SPI2_NSS/CAN1_TX/I2C2_SDA/UART5_TX][*], 97 PE0/[TIM4_ETR/UART8_Rx][*], 98 PE1/[UART8_Tx][*], 99 VSS, 100 VDD
text: MCU

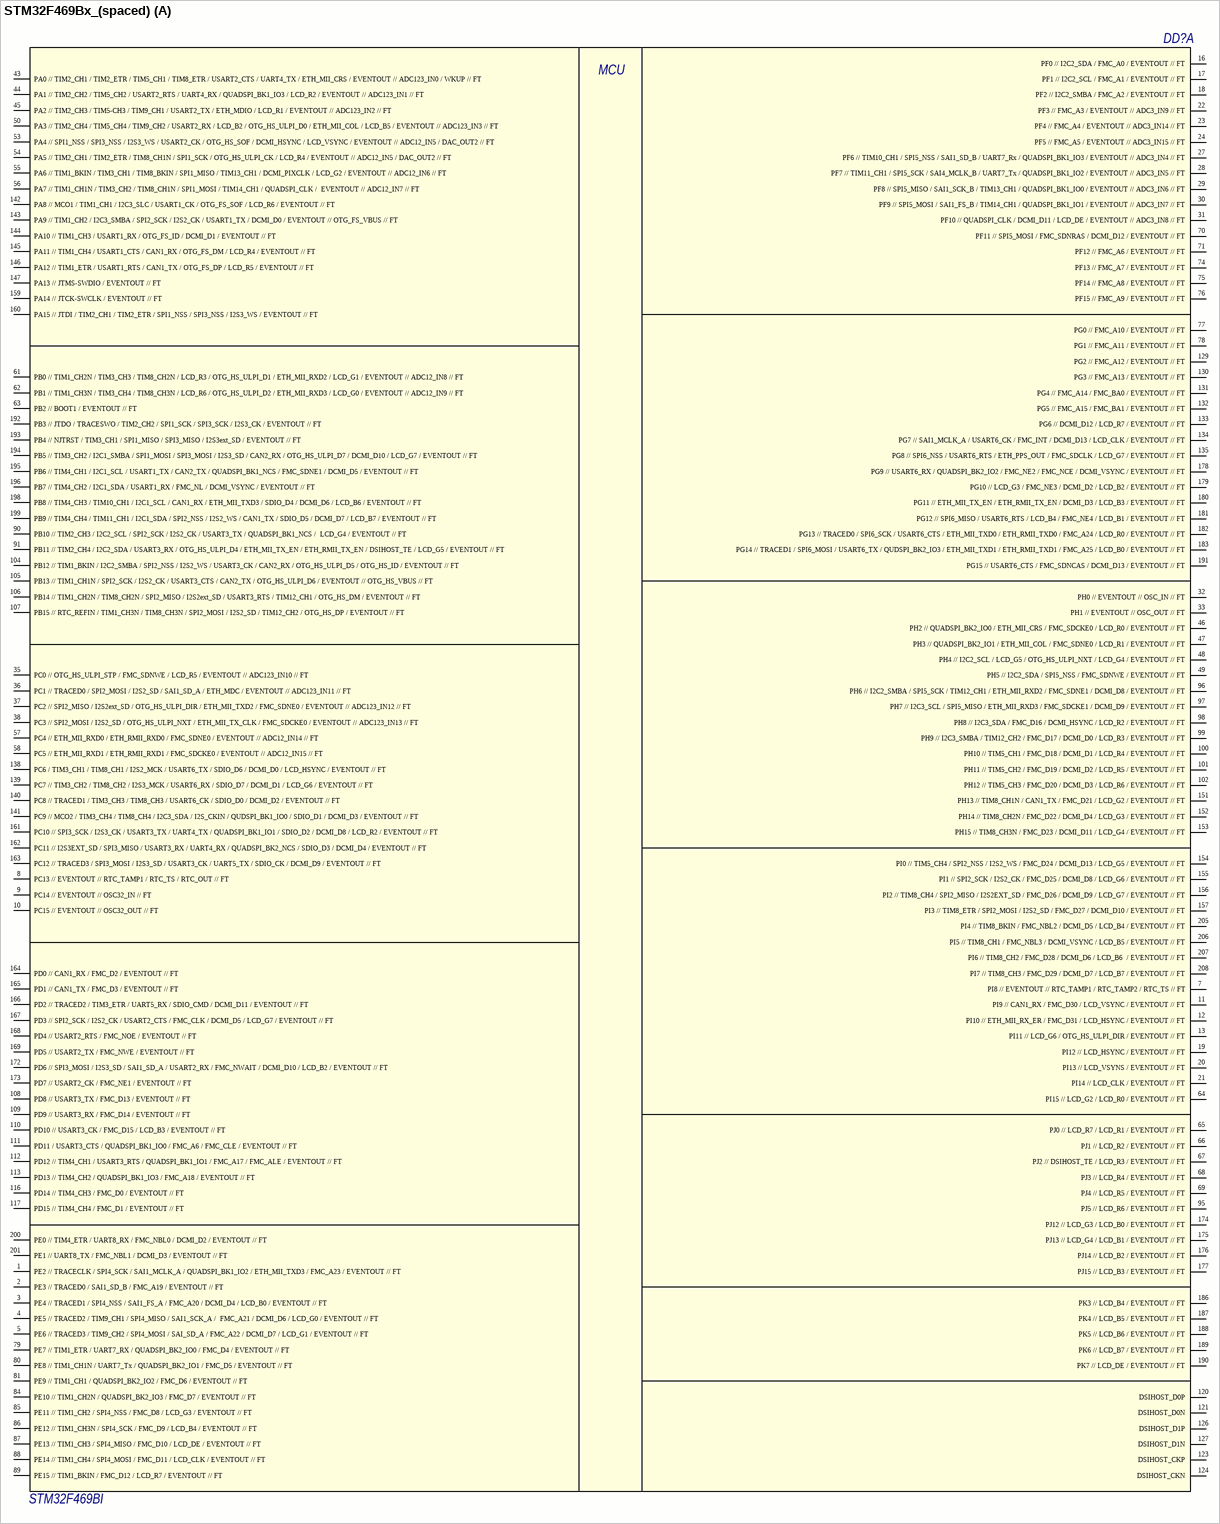
[diagram p6: symbol STM32F469Bx_(spaced)]

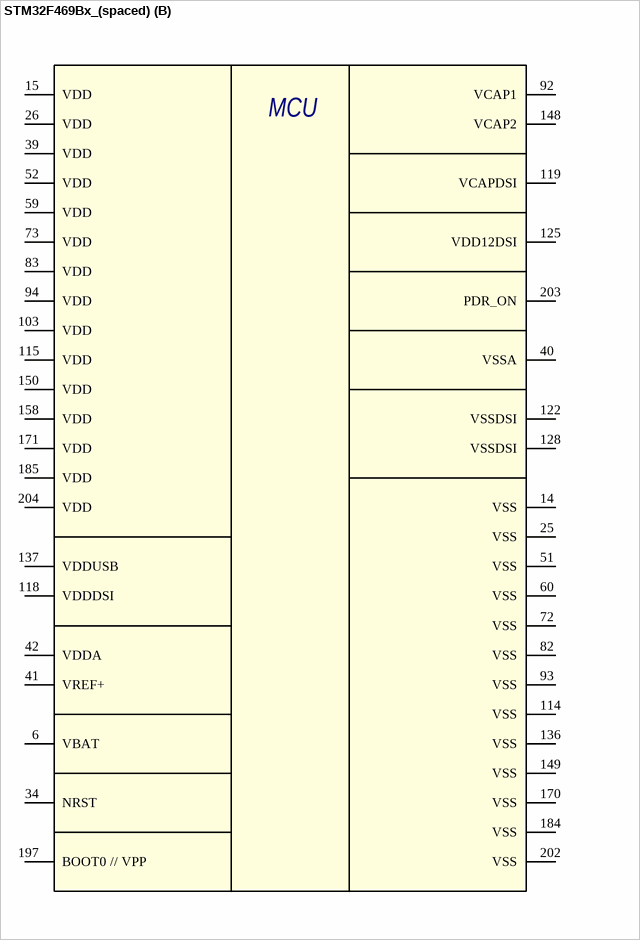
[diagram p7: symbol STM32F469Bx_(spaced)]

## STM32F469Bx_(spaced)
designator DD?, comment STM32F469BI
Микроконтроллер (разнесённый способ); Manufacturer: STMicroelectronics; Name: STM32F469BI
footprint LQFP208_A
part A pins: 1 PE2 // TRACECLK / SPI4_SCK / SAI1_MCLK_A / QUADSPI_BK1_IO2 / ETH_MII_TXD3 / FMC_A23 / EVENTOUT // FT, 2 PE3 // TRACED0 / SAI1_SD_B / FMC_A19 / EVENTOUT // FT, 3 PE4 // TRACED1 / SPI4_NSS / SAI1_FS_A / FMC_A20 / DCMI_D4 / LCD_B0 / EVENTOUT // FT, 4 PE5 // TRACED2 / TIM9_CH1 / SPI4_MISO / SAI1_SCK_A /  FMC_A21 / DCMI_D6 / LCD_G0 / EVENTOUT // FT, 5 PE6 // TRACED3 / TIM9_CH2 / SPI4_MOSI / SAI_SD_A / FMC_A22 / DCMI_D7 / LCD_G1 / EVENTOUT // FT, 7 PI8 // EVENTOUT // RTC_TAMP1 / RTC_TAMP2 / RTC_TS // FT, 8 PC13 // EVENTOUT // RTC_TAMP1 / RTC_TS / RTC_OUT // FT, 9 PC14 // EVENTOUT // OSC32_IN // FT, 10 PC15 // EVENTOUT // OSC32_OUT // FT, 11 PI9 // CAN1_RX / FMC_D30 / LCD_VSYNC / EVENTOUT // FT, 12 PI10 // ETH_MII_RX_ER / FMC_D31 / LCD_HSYNC / EVENTOUT // FT, 13 PI11 // LCD_G6 / OTG_HS_ULPI_DIR / EVENTOUT // FT, 16 PF0 // I2C2_SDA / FMC_A0 / EVENTOUT // FT, 17 PF1 // I2C2_SCL / FMC_A1 / EVENTOUT // FT, 18 PF2 // I2C2_SMBA / FMC_A2 / EVENTOUT // FT, 19 PI12 // LCD_HSYNC / EVENTOUT // FT, 20 PI13 // LCD_VSYNS / EVENTOUT // FT, 21 PI14 // LCD_CLK / EVENTOUT // FT, 22 PF3 // FMC_A3 / EVENTOUT // ADC3_IN9 // FT, 23 PF4 // FMC_A4 / EVENTOUT // ADC3_IN14 // FT, 24 PF5 // FMC_A5 / EVENTOUT // ADC3_IN15 // FT, 27 PF6 // TIM10_CH1 / SPI5_NSS / SAI1_SD_B / UART7_Rx / QUADSPI_BK1_IO3 / EVENTOUT // ADC3_IN4 // FT, 28 PF7 // TIM11_CH1 / SPI5_SCK / SAI4_MCLK_B / UART7_Tx / QUADSPI_BK1_IO2 / EVENTOUT // ADC3_IN5 // FT, 29 PF8 // SPI5_MISO / SAI1_SCK_B / TIM13_CH1 / QUADSPI_BK1_IO0 / EVENTOUT // ADC3_IN6 // FT, 30 PF9 // SPI5_MOSI / SAI1_FS_B / TIM14_CH1 / QUADSPI_BK1_IO1 / EVENTOUT // ADC3_IN7 // FT, 31 PF10 // QUADSPI_CLK / DCMI_D11 / LCD_DE / EVENTOUT // ADC3_IN8 // FT, 32 PH0 // EVENTOUT // OSC_IN // FT, 33 PH1 // EVENTOUT // OSC_OUT // FT, 35 PC0 // OTG_HS_ULPI_STP / FMC_SDNWE / LCD_R5 / EVENTOUT // ADC123_IN10 // FT, 36 PC1 // TRACED0 / SPI2_MOSI / I2S2_SD / SAI1_SD_A / ETH_MDC / EVENTOUT // ADC123_IN11 // FT, 37 PC2 // SPI2_MISO / I2S2ext_SD / OTG_HS_ULPI_DIR / ETH_MII_TXD2 / FMC_SDNE0 / EVENTOUT // ADC123_IN12 // FT, 38 PC3 // SPI2_MOSI / I2S2_SD / OTG_HS_ULPI_NXT / ETH_MII_TX_CLK / FMC_SDCKE0 / EVENTOUT // ADC123_IN13 // FT, 43 PA0 // TIM2_CH1 / TIM2_ETR / TIM5_CH1 / TIM8_ETR / USART2_CTS / UART4_TX / ETH_MII_CRS / EVENTOUT // ADC123_IN0 / WKUP // FT, 44 PA1 // TIM2_CH2 / TIM5_CH2 / USART2_RTS / UART4_RX / QUADSPI_BK1_IO3 / LCD_R2 / EVENTOUT // ADC123_IN1 // FT, 45 PA2 // TIM2_CH3 / TIM5-CH3 / TIM9_CH1 / USART2_TX / ETH_MDIO / LCD_R1 / EVENTOUT // ADC123_IN2 // FT, 46 PH2 // QUADSPI_BK2_IO0 / ETH_MII_CRS / FMC_SDCKE0 / LCD_R0 / EVENTOUT // FT, 47 PH3 // QUADSPI_BK2_IO1 / ETH_MII_COL / FMC_SDNE0 / LCD_R1 / EVENTOUT // FT, 48 PH4 // I2C2_SCL / LCD_G5 / OTG_HS_ULPI_NXT / LCD_G4 / EVENTOUT // FT, 49 PH5 // I2C2_SDA / SPI5_NSS / FMC_SDNWE / EVENTOUT // FT, 50 PA3 // TIM2_CH4 / TIM5_CH4 / TIM9_CH2 / USART2_RX / LCD_B2 / OTG_HS_ULPI_D0 / ETH_MII_COL / LCD_B5 / EVENTOUT // ADC123_IN3 // FT, 53 PA4 // SPI1_NSS / SPI3_NSS / I2S3_WS / USART2_CK / OTG_HS_SOF / DCMI_HSYNC / LCD_VSYNC / EVENTOUT // ADC12_IN5 / DAC_OUT2 // FT, 54 PA5 // TIM2_CH1 / TIM2_ETR / TIM8_CH1N / SPI1_SCK / OTG_HS_ULPI_CK / LCD_R4 / EVENTOUT // ADC12_IN5 / DAC_OUT2 // FT, 55 PA6 // TIM1_BKIN / TIM3_CH1 / TIM8_BKIN / SPI1_MISO / TIM13_CH1 / DCMI_PIXCLK / LCD_G2 / EVENTOUT // ADC12_IN6 // FT, 56 PA7 // TIM1_CH1N / TIM3_CH2 / TIM8_CH1N / SPI1_MOSI / TIM14_CH1 / QUADSPI_CLK /  EVENTOUT // ADC12_IN7 // FT, 57 PC4 // ETH_MII_RXD0 / ETH_RMII_RXD0 / FMC_SDNE0 / EVENTOUT // ADC12_IN14 // FT, 58 PC5 // ETH_MII_RXD1 / ETH_RMII_RXD1 / FMC_SDCKE0 / EVENTOUT // ADC12_IN15 // FT, 61 PB0 // TIM1_CH2N / TIM3_CH3 / TIM8_CH2N / LCD_R3 / OTG_HS_ULPI_D1 / ETH_MII_RXD2 / LCD_G1 / EVENTOUT // ADC12_IN8 // FT, 62 PB1 // TIM1_CH3N / TIM3_CH4 / TIM8_CH3N / LCD_R6 / OTG_HS_ULPI_D2 / ETH_MII_RXD3 / LCD_G0 / EVENTOUT // ADC12_IN9 // FT, 63 PB2 // BOOT1 / EVENTOUT // FT, 64 PI15 // LCD_G2 / LCD_R0 / EVENTOUT // FT, 65 PJ0 // LCD_R7 / LCD_R1 / EVENTOUT // FT, 66 PJ1 // LCD_R2 / EVENTOUT // FT, 67 PJ2 // DSIHOST_TE / LCD_R3 / EVENTOUT // FT, 68 PJ3 // LCD_R4 / EVENTOUT // FT, 69 PJ4 // LCD_R5 / EVENTOUT // FT, 70 PF11 // SPI5_MOSI / FMC_SDNRAS / DCMI_D12 / EVENTOUT // FT, 71 PF12 // FMC_A6 / EVENTOUT // FT, 74 PF13 // FMC_A7 / EVENTOUT // FT, 75 PF14 // FMC_A8 / EVENTOUT // FT, 76 PF15 // FMC_A9 / EVENTOUT // FT, 77 PG0 // FMC_A10 / EVENTOUT // FT, 78 PG1 // FMC_A11 / EVENTOUT // FT, 79 PE7 // TIM1_ETR / UART7_RX / QUADSPI_BK2_IO0 / FMC_D4 / EVENTOUT // FT, 80 PE8 // TIM1_CH1N / UART7_Tx / QUADSPI_BK2_IO1 / FMC_D5 / EVENTOUT // FT, 81 PE9 // TIM1_CH1 / QUADSPI_BK2_IO2 / FMC_D6 / EVENTOUT // FT, 84 PE10 // TIM1_CH2N / QUADSPI_BK2_IO3 / FMC_D7 / EVENTOUT // FT, 85 PE11 // TIM1_CH2 / SPI4_NSS / FMC_D8 / LCD_G3 / EVENTOUT // FT, 86 PE12 // TIM1_CH3N / SPI4_SCK / FMC_D9 / LCD_B4 / EVENTOUT // FT, 87 PE13 // TIM1_CH3 / SPI4_MISO / FMC_D10 / LCD_DE / EVENTOUT // FT, 88 PE14 // TIM1_CH4 / SPI4_MOSI / FMC_D11 / LCD_CLK / EVENTOUT // FT, 89 PE15 // TIM1_BKIN / FMC_D12 / LCD_R7 / EVENTOUT // FT, 90 PB10 // TIM2_CH3 / I2C2_SCL / SPI2_SCK / I2S2_CK / USART3_TX / QUADSPI_BK1_NCS /  LCD_G4 / EVENTOUT // FT, 91 PB11 // TIM2_CH4 / I2C2_SDA / USART3_RX / OTG_HS_ULPI_D4 / ETH_MII_TX_EN / ETH_RMII_TX_EN / DSIHOST_TE / LCD_G5 / EVENTOUT // FT, 95 PJ5 // LCD_R6 / EVENTOUT // FT, 96 PH6 // I2C2_SMBA / SPI5_SCK / TIM12_CH1 / ETH_MII_RXD2 / FMC_SDNE1 / DCMI_D8 / EVENTOUT // FT, 97 PH7 // I2C3_SCL / SPI5_MISO / ETH_MII_RXD3 / FMC_SDCKE1 / DCMI_D9 / EVENTOUT // FT, 98 PH8 // I2C3_SDA / FMC_D16 / DCMI_HSYNC / LCD_R2 / EVENTOUT // FT, 99 PH9 // I2C3_SMBA / TIM12_CH2 / FMC_D17 / DCMI_D0 / LCD_R3 / EVENTOUT // FT, 100 PH10 // TIM5_CH1 / FMC_D18 / DCMI_D1 / LCD_R4 / EVENTOUT // FT, 101 PH11 // TIM5_CH2 / FMC_D19 / DCMI_D2 / LCD_R5 / EVENTOUT // FT, 102 PH12 // TIM5_CH3 / FMC_D20 / DCMI_D3 / LCD_R6 / EVENTOUT // FT, 104 PB12 // TIM1_BKIN / I2C2_SMBA / SPI2_NSS / I2S2_WS / USART3_CK / CAN2_RX / OTG_HS_ULPI_D5 / OTG_HS_ID / EVENTOUT // FT, 105 PB13 // TIM1_CH1N / SPI2_SCK / I2S2_CK / USART3_CTS / CAN2_TX / OTG_HS_ULPI_D6 / EVENTOUT // OTG_HS_VBUS // FT, 106 PB14 // TIM1_CH2N / TIM8_CH2N / SPI2_MISO / I2S2ext_SD / USART3_RTS / TIM12_CH1 / OTG_HS_DM / EVENTOUT // FT, 107 PB15 // RTC_REFIN / TIM1_CH3N / TIM8_CH3N / SPI2_MOSI / I2S2_SD / TIM12_CH2 / OTG_HS_DP / EVENTOUT // FT, 108 PD8 // USART3_TX / FMC_D13 / EVENTOUT // FT, 109 PD9 // USART3_RX / FMC_D14 / EVENTOUT // FT, 110 PD10 // USART3_CK / FMC_D15 / LCD_B3 / EVENTOUT // FT, 111 PD11 / USART3_CTS / QUADSPI_BK1_IO0 / FMC_A6 / FMC_CLE / EVENTOUT // FT, 112 PD12 // TIM4_CH1 / USART3_RTS / QUADSPI_BK1_IO1 / FMC_A17 / FMC_ALE / EVENTOUT // FT, 113 PD13 // TIM4_CH2 / QUADSPI_BK1_IO3 / FMC_A18 / EVENTOUT // FT, 116 PD14 // TIM4_CH3 / FMC_D0 / EVENTOUT // FT, 117 PD15 // TIM4_CH4 / FMC_D1 / EVENTOUT // FT, 120 DSIHOST_D0P, 121 DSIHOST_D0N, 123 DSIHOST_CKP, 124 DSIHOST_CKN, 126 DSIHOST_D1P, 127 DSIHOST_D1N, 129 PG2 // FMC_A12 / EVENTOUT // FT, 130 PG3 // FMC_A13 / EVENTOUT // FT, 131 PG4 // FMC_A14 / FMC_BA0 / EVENTOUT // FT, 132 PG5 // FMC_A15 / FMC_BA1 / EVENTOUT // FT, 133 PG6 // DCMI_D12 / LCD_R7 / EVENTOUT // FT, 134 PG7 // SAI1_MCLK_A / USART6_CK / FMC_INT / DCMI_D13 / LCD_CLK / EVENTOUT // FT, 135 PG8 // SPI6_NSS / USART6_RTS / ETH_PPS_OUT / FMC_SDCLK / LCD_G7 / EVENTOUT // FT, 138 PC6 / TIM3_CH1 / TIM8_CH1 / I2S2_MCK / USART6_TX / SDIO_D6 / DCMI_D0 / LCD_HSYNC / EVENTOUT // FT, 139 PC7 // TIM3_CH2 / TIM8_CH2 / I2S3_MCK / USART6_RX / SDIO_D7 / DCMI_D1 / LCD_G6 / EVENTOUT // FT, 140 PC8 // TRACED1 / TIM3_CH3 / TIM8_CH3 / USART6_CK / SDIO_D0 / DCMI_D2 / EVENTOUT // FT, 141 PC9 // MCO2 / TIM3_CH4 / TIM8_CH4 / I2C3_SDA / I2S_CKIN / QUDSPI_BK1_IO0 / SDIO_D1 / DCMI_D3 / EVENTOUT // FT, 142 PA8 // MCO1 / TIM1_CH1 / I2C3_SLC / USART1_CK / OTG_FS_SOF / LCD_R6 / EVENTOUT // FT, 143 PA9 // TIM1_CH2 / I2C3_SMBA / SPI2_SCK / I2S2_CK / USART1_TX / DCMI_D0 / EVENTOUT // OTG_FS_VBUS // FT, 144 PA10 // TIM1_CH3 / USART1_RX / OTG_FS_ID / DCMI_D1 / EVENTOUT // FT, 145 PA11 // TIM1_CH4 / USART1_CTS / CAN1_RX / OTG_FS_DM / LCD_R4 / EVENTOUT // FT, 146 PA12 // TIM1_ETR / USART1_RTS / CAN1_TX / OTG_FS_DP / LCD_R5 / EVENTOUT // FT, 147 PA13 // JTMS-SWDIO / EVENTOUT // FT, 151 PH13 // TIM8_CH1N / CAN1_TX / FMC_D21 / LCD_G2 / EVENTOUT // FT, 152 PH14 // TIM8_CH2N / FMC_D22 / DCMI_D4 / LCD_G3 / EVENTOUT // FT, 153 PH15 // TIM8_CH3N / FMC_D23 / DCMI_D11 / LCD_G4 / EVENTOUT // FT, 154 PI0 // TIM5_CH4 / SPI2_NSS / I2S2_WS / FMC_D24 / DCMI_D13 / LCD_G5 / EVENTOUT // FT, 155 PI1 // SPI2_SCK / I2S2_CK / FMC_D25 / DCMI_D8 / LCD_G6 / EVENTOUT // FT, 156 PI2 // TIM8_CH4 / SPI2_MISO / I2S2EXT_SD / FMC_D26 / DCMI_D9 / LCD_G7 / EVENTOUT // FT, 157 PI3 // TIM8_ETR / SPI2_MOSI / I2S2_SD / FMC_D27 / DCMI_D10 / EVENTOUT // FT, 159 PA14 // JTCK-SWCLK / EVENTOUT // FT, 160 PA15 // JTDI / TIM2_CH1 / TIM2_ETR / SPI1_NSS / SPI3_NSS / I2S3_WS / EVENTOUT // FT, 161 PC10 // SPI3_SCK / I2S3_CK / USART3_TX / UART4_TX / QUADSPI_BK1_IO1 / SDIO_D2 / DCMI_D8 / LCD_R2 / EVENTOUT // FT, 162 PC11 // I2S3EXT_SD / SPI3_MISO / USART3_RX / UART4_RX / QUADSPI_BK2_NCS / SDIO_D3 / DCMI_D4 / EVENTOUT // FT, 163 PC12 // TRACED3 / SPI3_MOSI / I2S3_SD / USART3_CK / UART5_TX / SDIO_CK / DCMI_D9 / EVENTOUT // FT, 164 PD0 // CAN1_RX / FMC_D2 / EVENTOUT // FT, 165 PD1 // CAN1_TX / FMC_D3 / EVENTOUT // FT, 166 PD2 // TRACED2 / TIM3_ETR / UART5_RX / SDIO_CMD / DCMI_D11 / EVENTOUT // FT, 167 PD3 // SPI2_SCK / I2S2_CK / USART2_CTS / FMC_CLK / DCMI_D5 / LCD_G7 / EVENTOUT // FT, 168 PD4 // USART2_RTS / FMC_NOE / EVENTOUT // FT, 169 PD5 // USART2_TX / FMC_NWE / EVENTOUT // FT, 172 PD6 // SPI3_MOSI / I2S3_SD / SAI1_SD_A / USART2_RX / FMC_NWAIT / DCMI_D10 / LCD_B2 / EVENTOUT // FT, 173 PD7 // USART2_CK / FMC_NE1 / EVENTOUT // FT, 174 PJ12 // LCD_G3 / LCD_B0 / EVENTOUT // FT, 175 PJ13 // LCD_G4 / LCD_B1 / EVENTOUT // FT, 176 PJ14 // LCD_B2 / EVENTOUT // FT, 177 PJ15 // LCD_B3 / EVENTOUT // FT, 178 PG9 // USART6_RX / QUADSPI_BK2_IO2 / FMC_NE2 / FMC_NCE / DCMI_VSYNC / EVENTOUT // FT, 179 PG10 // LCD_G3 / FMC_NE3 / DCMI_D2 / LCD_B2 / EVENTOUT // FT, 180 PG11 // ETH_MII_TX_EN / ETH_RMII_TX_EN / DCMI_D3 / LCD_B3 / EVENTOUT // FT, 181 PG12 // SPI6_MISO / USART6_RTS / LCD_B4 / FMC_NE4 / LCD_B1 / EVENTOUT // FT, 182 PG13 // TRACED0 / SPI6_SCK / USART6_CTS / ETH_MII_TXD0 / ETH_RMII_TXD0 / FMC_A24 / LCD_R0 / EVENTOUT // FT, 183 PG14 // TRACED1 / SPI6_MOSI / USART6_TX / QUDSPI_BK2_IO3 / ETH_MII_TXD1 / ETH_RMII_TXD1 / FMC_A25 / LCD_B0 / EVENTOUT // FT, 186 PK3 // LCD_B4 / EVENTOUT // FT, 187 PK4 // LCD_B5 / EVENTOUT // FT, 188 PK5 // LCD_B6 / EVENTOUT // FT, 189 PK6 // LCD_B7 / EVENTOUT // FT, 190 PK7 // LCD_DE / EVENTOUT // FT, 191 PG15 // USART6_CTS / FMC_SDNCAS / DCMI_D13 / EVENTOUT // FT, 192 PB3 // JTDO / TRACESWO / TIM2_CH2 / SPI1_SCK / SPI3_SCK / I2S3_CK / EVENTOUT // FT, 193 PB4 // NJTRST / TIM3_CH1 / SPI1_MISO / SPI3_MISO / I2S3ext_SD / EVENTOUT // FT, 194 PB5 // TIM3_CH2 / I2C1_SMBA / SPI1_MOSI / SPI3_MOSI / I2S3_SD / CAN2_RX / OTG_HS_ULPI_D7 / DCMI_D10 / LCD_G7 / EVENTOUT // FT, 195 PB6 // TIM4_CH1 / I2C1_SCL / USART1_TX / CAN2_TX / QUADSPI_BK1_NCS / FMC_SDNE1 / DCMI_D5 / EVENTOUT // FT, 196 PB7 // TIM4_CH2 / I2C1_SDA / USART1_RX / FMC_NL / DCMI_VSYNC / EVENTOUT // FT, 198 PB8 // TIM4_CH3 / TIM10_CH1 / I2C1_SCL / CAN1_RX / ETH_MII_TXD3 / SDIO_D4 / DCMI_D6 / LCD_B6 / EVENTOUT // FT, 199 PB9 // TIM4_CH4 / TIM11_CH1 / I2C1_SDA / SPI2_NSS / I2S2_WS / CAN1_TX / SDIO_D5 / DCMI_D7 / LCD_B7 / EVENTOUT // FT, 200 PE0 // TIM4_ETR / UART8_RX / FMC_NBL0 / DCMI_D2 / EVENTOUT // FT, 201 PE1 // UART8_TX / FMC_NBL1 / DCMI_D3 / EVENTOUT // FT, 205 PI4 // TIM8_BKIN / FMC_NBL2 / DCMI_D5 / LCD_B4 / EVENTOUT // FT, 206 PI5 // TIM8_CH1 / FMC_NBL3 / DCMI_VSYNC / LCD_B5 / EVENTOUT // FT, 207 PI6 // TIM8_CH2 / FMC_D28 / DCMI_D6 / LCD_B6  / EVENTOUT // FT, 208 PI7 // TIM8_CH3 / FMC_D29 / DCMI_D7 / LCD_B7 / EVENTOUT // FT
part B pins: 6 VBAT, 14 VSS, 15 VDD, 25 VSS, 26 VDD, 34 NRST, 39 VDD, 40 VSSA, 41 VREF+, 42 VDDA, 51 VSS, 52 VDD, 59 VDD, 60 VSS, 72 VSS, 73 VDD, 82 VSS, 83 VDD, 92 VCAP1, 93 VSS, 94 VDD, 103 VDD, 114 VSS, 115 VDD, 118 VDDDSI, 119 VCAPDSI, 122 VSSDSI, 125 VDD12DSI, 128 VSSDSI, 136 VSS, 137 VDDUSB, 148 VCAP2, 149 VSS, 150 VDD, 158 VDD, 170 VSS, 171 VDD, 184 VSS, 185 VDD, 197 BOOT0 // VPP, 202 VSS, 203 PDR_ON, 204 VDD
part A text: MCU
part B text: MCU